# Altium footprint library Custom library.PcbLib: 80 footprints (part 5 of 5)
Each footprint in its own frame and in the unit in brackets; x right, y up, seen from the top. Pads: shape width x height; smd on the part's side, far side on the other; paste and mask are expansions set on the pad; w line width, h text height; cw(c..) or ccw(c..) is an arc to the next point about the centre after c.
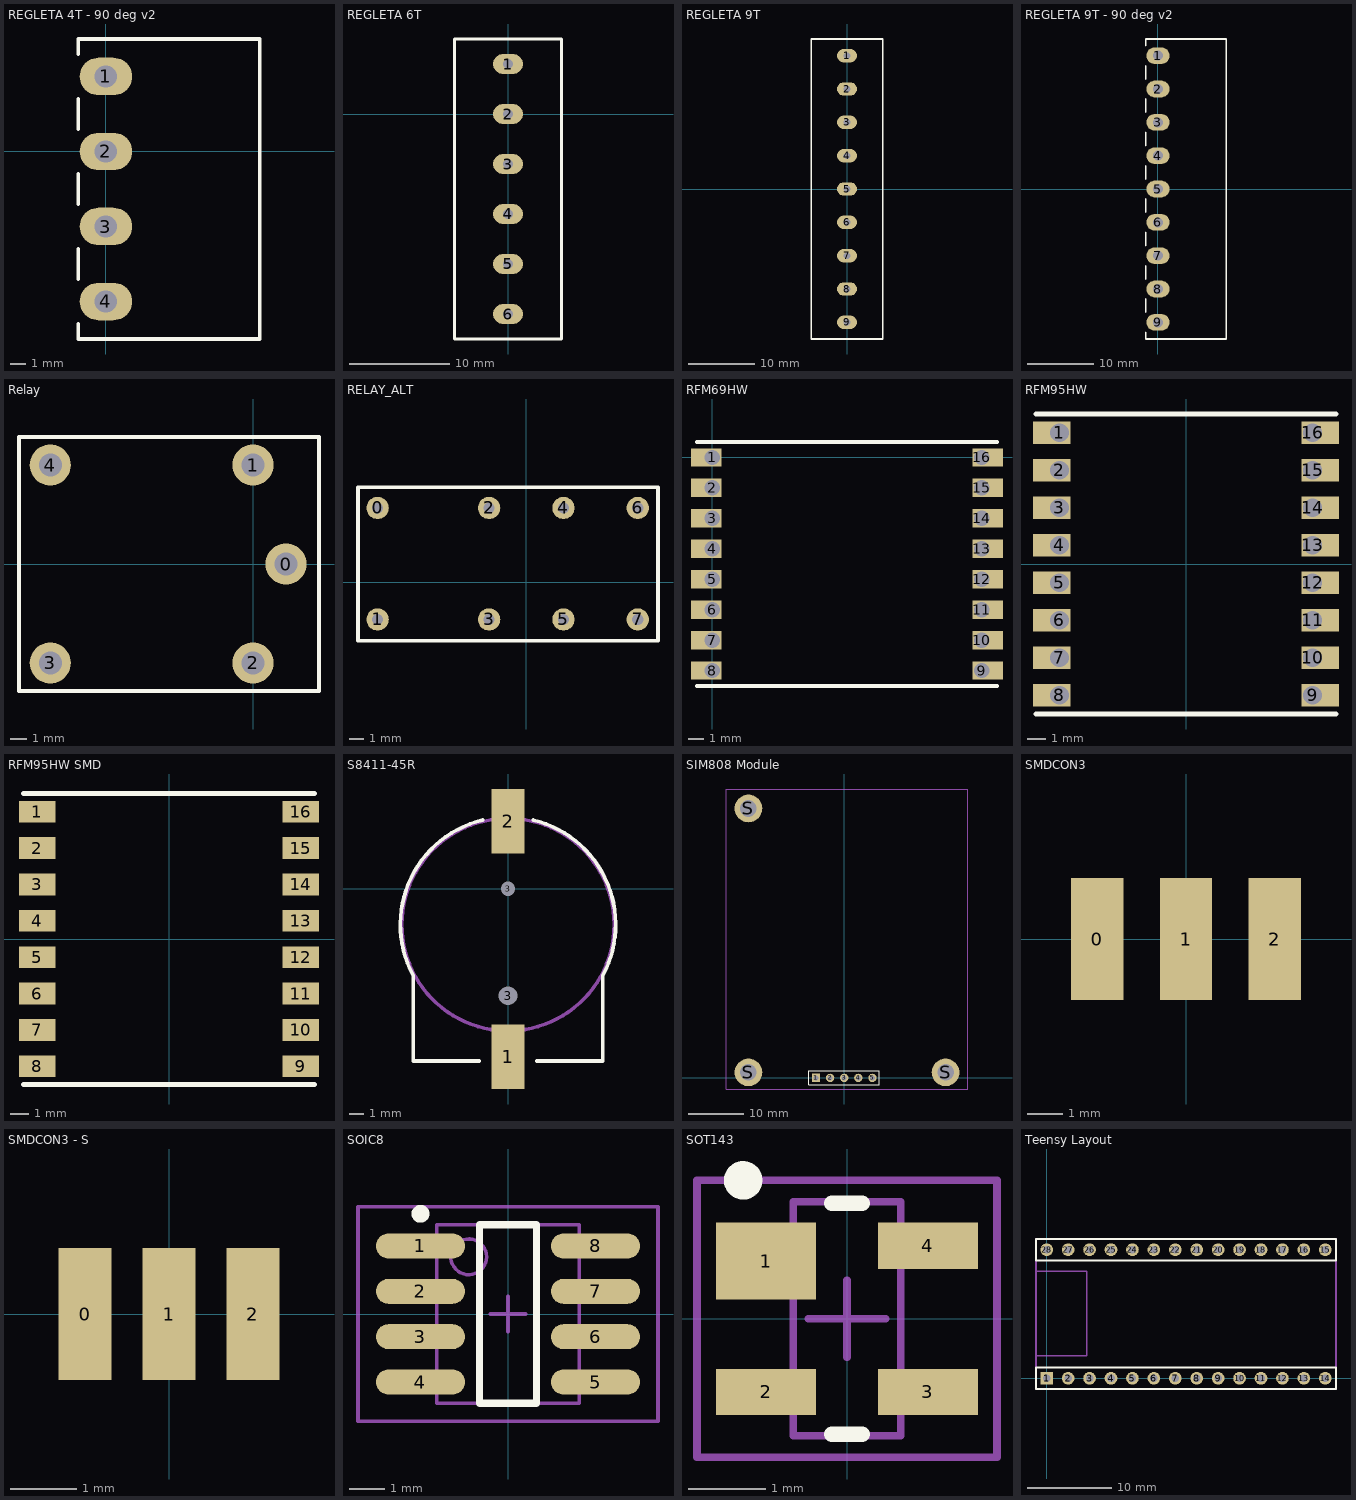
[diagram p4: the footprints below, top view; thin cyan lines are the x and y axes]

## REGLETA 4T - 90 deg v2 [mm]
pads (4):
  oval 3.5x2.5 hole 1.5: 1(0,5) 2(0,0) 3(0,-5)
  oval 3.5x2.5 hole 1.5 paste+0: 4(0,-10)
Top Overlay:
  lines w0.254: -1.85,-11.5 -1.85,-12.5 10.25,-12.5 10.25,7.5 -1.85,7.5 -1.85,6.5 ; -1.85,-8.5 -1.85,-6.5 ; -1.85,-3.5 -1.85,-1.5 ; -1.85,1.5 -1.85,3.5
3D body: height 7.82, standoff 0.1, extent -1.85,-12.5 10.25,7.5

## REGLETA 6T [mm]
pads (6):
  oval 3x2 hole 1: 1(0,5) 2(0,0) 3(0,-5)
  oval 3x2 hole 1 paste+0: 4(0,-10) 5(0,-15) 6(0,-20)
Top Overlay:
  lines w0.254: -5.35,-22.5 5.35,-22.5 5.35,7.5 -5.35,7.5 -5.35,-22.5
3D body: height 8, standoff 0, extent -5.35,-22.5 5.35,7.453
3D body: height 14.3, standoff 8, extent -3.175,-22.55 3.19,7.453

## REGLETA 9T [mm]
pads (9):
  oval 3x2 hole 1: 1(0,20) 2(0,15) 3(0,10) 4(0,5) 5(0,0) 6(0,-5)
  oval 3x2 hole 1 paste+0: 7(0,-10) 8(0,-15) 9(0,-20)
Top Overlay:
  lines w0.254: -5.35,-22.5 -5.35,22.5 5.35,22.5 5.35,-22.5 -5.35,-22.5
3D body: height 14.3, standoff 8, extent -3.16,-22.55 3.2,22.5
3D body: height 8, standoff 0, extent -5.35,-22.5 5.35,22.5

## REGLETA 9T - 90 deg v2 [mm]
pads (9):
  oval 3.5x2.5 hole 1.5: 1(0,20) 2(0,15) 3(0,10) 4(0,5) 5(0,0) 6(0,-5) 7(0,-10) 8(0,-15) 9(0,-20)
Top Overlay:
  lines w0.254: -1.85,-21.5 -1.85,-22.5 10.25,-22.5 10.25,22.5 -1.85,22.5 -1.85,21.5 ; -1.85,-18.5 -1.85,-16.5 ; -1.85,-13.5 -1.85,-11.5 ; -1.85,-8.5 -1.85,-6.5 ; -1.85,-3.5 -1.85,-1.5 ; -1.85,1.5 -1.85,3.5 ; -1.85,6.5 -1.85,8.5 ; -1.85,11.5 -1.85,13.5 ; -1.85,16.5 -1.85,18.5
3D body: height 7.82, standoff 0.1, extent -1.85,-22.5 10.25,22.5

## Relay [mm] "Relay SPDT"
height 15.2
pads (5):
  round 2.5 hole 1.4: 0(2,0) 1(0,6) 2(0,-6) 3(-12.3,-6) 4(-12.3,6)
Top Overlay:
  lines w0.254: -14.2,-7.7 4,-7.7 4,7.7 -14.2,7.7 -14.2,-7.7
3D body: height 15.2, standoff 0, extent -14.224,-7.747 4.064,7.747

## RELAY_ALT [mil] "rele alternativo SPDT"
pads (8):
  round 60 hole 30: 0(-400,200) 1(-400,-100) 2(-100,200) 3(-100,-100) 4(100,200) 5(100,-100) 6(300,200) 7(300,-100)
Top Overlay:
  lines w10: -452.76,-157.48 354.33,-157.48 354.33,255.91 -452.76,255.91 -452.76,-157.48

## RFM69HW [mm] "Modulo transceptor SPI"
pads (16):
  rect 2x1.2 hole 1 copper offset -0.4,0: 1(0,0) 2(0,-2) 3(0,-4) 4(0,-6) 5(0,-8) 6(0,-10) 7(0,-12) 8(0,-14)
  rect 2x1.2 hole 1 copper offset 0.4,0: 9(17.7,-14) 10(17.7,-12) 11(17.7,-10) 12(17.7,-8) 13(17.7,-6) 14(17.7,-4) 15(17.7,-2) 16(17.7,0)
Top Overlay:
  lines w0.254: -1,-15 18.7,-15 ; -1,1 18.7,1
3D body: height 1, standoff 0.5, extent -1,-15 18.7,1

## RFM95HW [mm] "Modulo transceptor SPI"
pads (16):
  rect 2x1.2 hole 1 copper offset -0.4,0: 1(-6.75,7) 2(-6.75,5) 3(-6.75,3) 4(-6.75,1) 5(-6.75,-1) 6(-6.75,-3) 7(-6.75,-5) 8(-6.75,-7)
  rect 2x1.2 hole 1 copper offset 0.4,0: 9(6.75,-7) 10(6.75,-5) 11(6.75,-3) 12(6.75,-1) 13(6.75,1) 14(6.75,3) 15(6.75,5) 16(6.75,7)
Top Overlay:
  lines w0.254: -8,-8 8,-8 ; -8,8 8,8
3D body: height 1, standoff 0.5, extent -8,-8 8,8

## RFM95HW SMD [mm] "Modulo transceptor SPI"
pads (16):
  rect 2x1.2 smd: 1(-7.25,7) 2(-7.25,5) 3(-7.25,3) 4(-7.25,1) 5(-7.25,-1) 6(-7.25,-3) 7(-7.25,-5) 8(-7.25,-7) 9(7.25,-7) 10(7.25,-5) 11(7.25,-3) 12(7.25,-1) 13(7.25,1) 14(7.25,3) 15(7.25,5) 16(7.25,7)
Top Overlay:
  lines w0.254: -8,-8 8,-8 ; -8,8 8,8
3D body: height 1, standoff 0.5, extent -8,-8 8,8

## S8411-45R [mm] "CR1220 Batery Holder"
pads (4):
  rect 2.3x4.5 smd: 1(0,-11.7) 2(0,4.7)
  round 1.1 hole 1.3: 3(0,-7.45)
  round 0.8 hole 1: 3(0,0)
Top Overlay:
  lines w0.254: -6.605,-6.053 cw(c0,-2.5) -1.76,4.791 ; -6.6,-6.05 -6.6,-12 -2,-12 ; 1.767,4.789 cw(c0,-2.5) 6.605,-6.053 ; 2,-12 6.6,-12 6.6,-6.05
Mechanical 1:
  circle w0.254: c0,-2.5 r7.4
3D body: height 4.25, standoff 0, extent -6.6,-12 6.6,-6.05
3D body: height 4.25, standoff 0, extent -7.342,-9.885 7.4,4.885

## SIM808 Module [mm] "GSM/GPRS/GPS/BT"
pads (8):
  rect 1.5x1.5 hole 0.9: 1(-5.08,0)
  round 1.5 hole 0.9: 2(-2.54,0) 3(0,0) 4(2.54,0) 5(5.08,0)
  round 5 hole 3: S(-17.25,1) S(-17.25,48.5) S(18.25,1)
Top Overlay:
  lines w0.2: -6.35,-1.27 -6.35,1.27 6.35,1.27 6.35,-1.27 -6.35,-1.27
Mechanical 15:
  lines w0.2: -21.25,-2 -21.25,52 22.25,52 22.25,-2 -21.25,-2

## SMDCON3 [mm] "Conection pads 3p"
pads (3):
  rect 1.5x3.5 smd: 0(-2.54,0) 1(0,0) 2(2.54,0)

## SMDCON3 - S [mm] "Conection pads 3p 1.27mm"
pads (3):
  rect 0.8x2 smd: 0(-1.27,0) 1(0,0) 2(1.27,0)

## SOIC8 [mm]
pads (8):
  oval 2.5x0.7 smd: 1(-2.45,1.905) 2(-2.45,0.635) 3(-2.45,-0.635) 4(-2.45,-1.905) 5(2.45,-1.905) 6(2.45,-0.635) 7(2.45,0.635) 8(2.45,1.905)
Top Overlay:
  circle w0.25: c-2.45,2.805 r0.125
  lines w0.2: -0.8,-2.5 -0.8,2.5 0.8,2.5 0.8,-2.5 -0.8,-2.5
Mechanical 13:
  circle w0.1: c-1.1,1.6 r0.5
  lines w0.1: -2,-2.5 -2,2.5 2,2.5 2,-2.5 -2,-2.5
Mechanical 15:
  lines w0.1: -0.5,0 0.5,0 ; 0,-0.5 0,0.5 ; -4.2,-3 -4.2,3 4.2,3 4.2,-3 -4.2,-3
3D body: height 1.75, standoff 0, extent -2,-2.5 2,2.5

## SOT143 [mm] "SOT144 - Mini4-G4-B"
pads (4):
  rect 1.3x1 smd: 1(-1.05,0.75)
  rect 1.3x0.6 smd: 2(-1.05,-0.95) 3(1.05,-0.95) 4(1.05,0.95)
Top Overlay:
  circle w0.25: c-1.35,1.8 r0.125
  lines w0.2: -0.2,-1.5 0.2,-1.5 ; -0.2,1.5 0.2,1.5
Mechanical 13:
  lines w0.1: -0.7,-1.52 -0.7,1.52 0.7,1.52 0.7,-1.52 -0.7,-1.52
Mechanical 15:
  lines w0.1: -0.5,0 0.5,0 ; 0,-0.5 0,0.5 ; -1.95,-1.8 -1.95,1.8 1.95,1.8 1.95,-1.8 -1.95,-1.8
3D body: height 1.1, standoff 0, extent -0.7,-1.52 0.7,1.52

## Teensy Layout [mm] "Teensy board layout"
pads (28):
  rect 1.5x1.5 hole 0.9: 1(0,0)
  round 1.5 hole 0.9: 2(2.54,0) 3(5.08,0) 4(7.62,0) 5(10.16,0) 6(12.7,0) 7(15.24,0) 8(17.78,0) 9(20.32,0) 10(22.86,0) 11(25.4,0) 12(27.94,0) 13(30.48,0) 14(33.02,0) 15(33.02,15.24) 16(30.48,15.24) 17(27.94,15.24) 18(25.4,15.24) 19(22.86,15.24) 20(20.32,15.24) 21(17.78,15.24) 22(15.24,15.24) 23(12.7,15.24) 24(10.16,15.24) 25(7.62,15.24) 26(5.08,15.24) 27(2.54,15.24) 28(0,15.24)
Top Overlay:
  lines w0.2: -1.27,-1.27 -1.27,1.27 0.635,1.27 34.29,1.27 34.29,-1.27 -1.27,-1.27 ; -1.27,13.97 -1.27,16.51 34.29,16.51 34.29,13.97 32.385,13.97 -1.27,13.97
Mechanical 1:
  lines w0.2: -1.27,-1.27 34.29,-1.27 34.29,16.51 -1.27,16.51 -1.27,-1.27 ; -1.27,2.68 4.73,2.68 4.73,12.68 -1.27,12.68 -1.27,2.68
3D body: height 2.55, standoff 0.01, extent -1.27,-1.27 34.29,1.27
3D body: height 2.55, standoff 0.01, extent -1.27,13.97 34.29,16.51
3D body: height 7.09, standoff 2.6, extent -2.53,-1.29 34.449,16.638